# Altium footprint library relay.PcbLib: 40 footprints (part 2 of 3)
Each footprint in its own frame and in the unit in brackets; x right, y up, seen from the top. Pads: shape width x height; smd on the part's side, far side on the other; paste and mask are expansions set on the pad; w line width, h text height; cw(c..) or ccw(c..) is an arc to the next point about the centre after c.
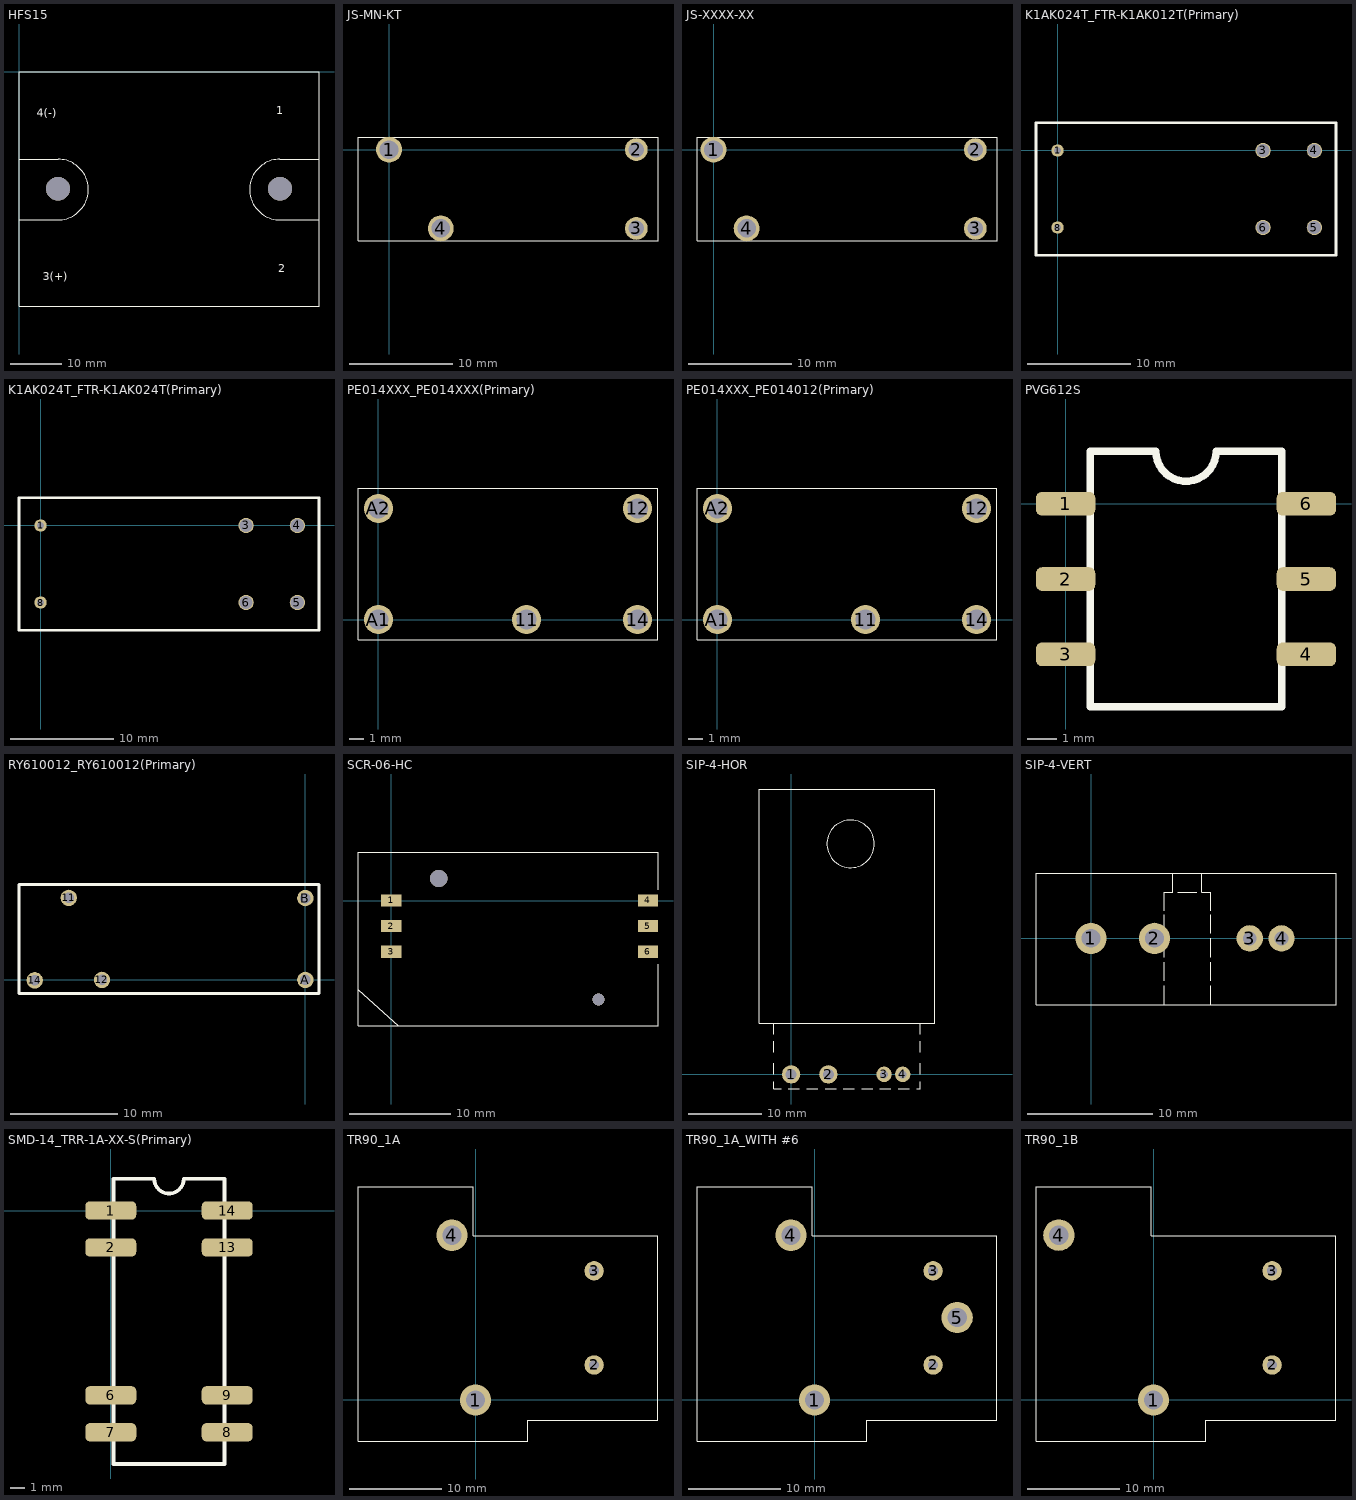
[diagram p1: the footprints below, top view; thin cyan lines are the x and y axes]

## HFS15 [mm]
via 50.8,-22.8 diameter 4.6 hole 4.6
via 7.6,-22.8 diameter 4.6 hole 4.6
Top Overlay:
  lines w0.2: 0,-28.85 7.6,-28.85 ccw(c7.6,-22.95) 7.6,-17.05 0,-17.05 ; 58.4,-28.85 50.8,-28.85 cw(c50.8,-22.95) 50.8,-17.05 58.4,-17.05 ; 0,-45.7 58.4,-45.7 58.4,0 0,0 0,-45.7
  text "1" at 50.1,-8.3 h1.59
  text "2" at 50.5,-39.1 h1.59
  text "4(-)" at 3.5,-8.8 h1.59
  text "3(+)" at 4.6,-40.6 h1.59

## JS-MN-KT [mm]
pads (4):
  round 2.5 hole 1.8: 1(0,0) 4(5,-7.62)
  round 2.2 hole 1.5: 2(23.9,0) 3(23.9,-7.62)
Top Overlay:
  lines w0.025: -3,-8.81 26,-8.81 26,1.19 -3,1.19 -3,-8.81

## JS-XXXX-XX [mm]
pads (4):
  round 2.5 hole 1.8: 1(0,0) 4(3.2,-7.62)
  round 2.2 hole 1.5: 2(25.3,0) 3(25.3,-7.62)
Top Overlay:
  lines w0.025: -1.6,-8.81 27.4,-8.81 27.4,1.19 -1.6,1.19 -1.6,-8.81

## K1AK024T_FTR-K1AK012T(Primary) [mm]
pads (6):
  round 1.2 hole 0.7: 1(0,0) 8(0,-7.5)
  round 1.5 hole 1.3: 3(20,0) 4(25,0) 5(25,-7.5) 6(20,-7.5)
Top Overlay:
  lines w0.25: -2.1,-10.2 27.1,-10.2 27.1,2.7 -2.1,2.7 -2.1,-10.2
3D body "FTR-K1.sldprt": height 15.7, standoff -3.3, extent -2.562,-10.16 26.438,2.54

## K1AK024T_FTR-K1AK024T(Primary) [mm]
pads (6):
  round 1.2 hole 0.7: 1(0,0) 8(0,-7.5)
  round 1.5 hole 1.3: 3(20,0) 4(25,0) 5(25,-7.5) 6(20,-7.5)
Top Overlay:
  lines w0.25: -2.1,-10.2 27.1,-10.2 27.1,2.7 -2.1,2.7 -2.1,-10.2
3D body "FTR-K1.sldprt": height 15.7, standoff -3.3, extent -2.562,-10.16 26.438,2.54

## PE014XXX_PE014XXX(Primary) [mm]
pads (5):
  round 2 hole 1.4: 11(10.16,0) 12(17.78,7.62) 14(17.78,0) A1(0,0) A2(0,7.62)
Top Overlay:
  lines w0.025: -1.4,-1.4 19.18,-1.4 19.18,9.02 -1.4,9.02 -1.4,-1.4

## PE014XXX_PE014012(Primary) [mm]
pads (5):
  round 2 hole 1.4: 11(10.16,0) 12(17.78,7.62) 14(17.78,0) A1(0,0) A2(0,7.62)
Top Overlay:
  lines w0.025: -1.4,-1.4 19.18,-1.4 19.18,9.02 -1.4,9.02 -1.4,-1.4

## PVG612S [mm]
pads (6):
  rrect50% 2x0.8 smd: 1(0,0) 2(0,-2.54) 3(0,-5.08) 4(8.12,-5.08) 5(8.12,-2.54) 6(8.12,0)
Top Overlay:
  lines w0.254: 0.825,-6.855 7.295,-6.855 7.295,1.775 5.076,1.775 cw(c4.06,1.775) 3.044,1.775 0.825,1.775 0.825,-6.855

## RY610012_RY610012(Primary) [mil]
pads (5):
  round 60 hole 38: 11(-867.72,300.79) 12(-745.67,0) 14(-992.52,-1.57) A(0,0) B(0,300)
Top Overlay:
  lines w11.81: -1050,-50 50,-50 50,350 -1050,350 -1050,-50

## SCR-06-HC [mm]
pads (6):
  rect 2x1.2 smd: 1(0,0.02) 2(0,-2.52) 3(0,-5.06) 4(25.4,0.02) 5(25.4,-2.52) 6(25.4,-5.06)
via 4.7,2.2 diameter 1.7 hole 1.7
via 20.5,-9.8 diameter 1.2 hole 1.2
Top Overlay:
  lines w0.1: -3.3,-8.8 0.7,-12.4 ; 26.4,-6.3 26.4,-12.4 -3.3,-12.4 -3.3,4.8 26.4,4.8 26.4,1.1

## SIP-4-HOR [mm]
pads (4):
  round 2.5 hole 1.5: 1(-0.01,0) 2(5.07,0)
  round 2.1 hole 1.1: 3(12.69,0) 4(15.23,0)
Top Overlay:
  circle w0.025: c8.12,31.5 r3.25
  lines w0.025: -2.38,-1 -2.38,-2 -1.38,-2 ; -2.38,0 -2.38,1.5 ; -2.38,3 -2.38,4.5 ; -2.38,5.5 -2.38,7 ; -0.38,-2 1.12,-2 ; 2.12,-2 3.62,-2 ; 4.62,-2 6.12,-2 ; 7.12,-2 8.62,-2 ; 9.62,-2 11.12,-2 ; 12.12,-2 13.62,-2 ; 14.62,-2 16.12,-2 ; 17.12,-2 17.62,-2 17.62,-1 ; 17.62,0 17.62,1.5 ; 17.62,3 17.62,4.5 ; 17.62,5.5 17.62,7 ; -4.38,7 19.62,7 19.62,39 -4.38,39 -4.38,7

## SIP-4-VERT [mm]
pads (4):
  round 2.5 hole 1.5: 1(-0.01,0) 2(5.07,0)
  round 2.1 hole 1.1: 3(12.69,0) 4(15.23,0)
Top Overlay:
  lines w0.025: 5.85,-5.3 5.85,-3.8 ; 5.85,-3.4 5.85,-1.9 ; 5.85,-1.5 5.85,-0.4 ; 5.85,0.4 5.85,1.9 ; 5.85,2.2 5.85,3.7 6.55,3.7 6.55,5.2 ; 6.95,3.7 8.45,3.7 ; 8.85,5.2 8.85,3.7 9.55,3.7 9.55,2.2 ; 9.55,-5.3 9.55,-3.8 ; 9.55,-3.4 9.55,-1.9 ; 9.55,-1.5 9.55,0 ; 9.55,0.4 9.55,1.9 ; -4.41,-5.3 19.59,-5.3 19.59,5.2 -4.41,5.2 -4.41,-5.3

## SMD-14_TRR-1A-XX-S(Primary) [mm]
pads (8):
  rrect50% 3.5x1.25 smd: 1(0,0) 2(0,-2.54) 6(0,-12.7) 7(0,-15.24) 8(8,-15.24) 9(8,-12.7) 13(8,-2.54) 14(8,0)
Top Overlay:
  lines w0.254: 0.19,-17.42 7.81,-17.42 7.81,2.18 5.016,2.18 cw(c4,2.18) 2.984,2.18 0.19,2.18 0.19,-17.42

## TR90_1A [mm]
pads (4):
  round 3.4 hole 2.1: 1(0,-0.01) 4(-2.55,17.84)
  round 2.1 hole 1.1: 2(12.85,3.79) 3(12.85,13.99)
Top Overlay:
  lines w0.1: -12.73,-4.49 -12.73,23.11 -0.23,23.11 -0.23,17.81 19.77,17.81 19.77,-2.19 5.67,-2.19 5.67,-4.49 -12.73,-4.49

## TR90_1A_WITH #6 [mm]
pads (5):
  round 3.4 hole 2.1: 1(0,-0.01) 4(-2.55,17.84) 5(15.45,8.93)
  round 2.1 hole 1.1: 2(12.85,3.79) 3(12.85,13.99)
Top Overlay:
  lines w0.1: -12.73,-4.49 -12.73,23.11 -0.23,23.11 -0.23,17.81 19.77,17.81 19.77,-2.19 5.67,-2.19 5.67,-4.49 -12.73,-4.49

## TR90_1B [mm]
pads (4):
  round 3.4 hole 2.1: 1(0,-0.01) 4(-10.25,17.85)
  round 2.1 hole 1.1: 2(12.85,3.79) 3(12.85,13.99)
Top Overlay:
  lines w0.1: -12.73,-4.49 -12.73,23.11 -0.23,23.11 -0.23,17.81 19.77,17.81 19.77,-2.19 5.67,-2.19 5.67,-4.49 -12.73,-4.49